# EAGLE library part C.H.I.P.-HEADER (library C.H.I.P)
Pin headers for mating with C.H.I.P. https://www.nextthing.co/
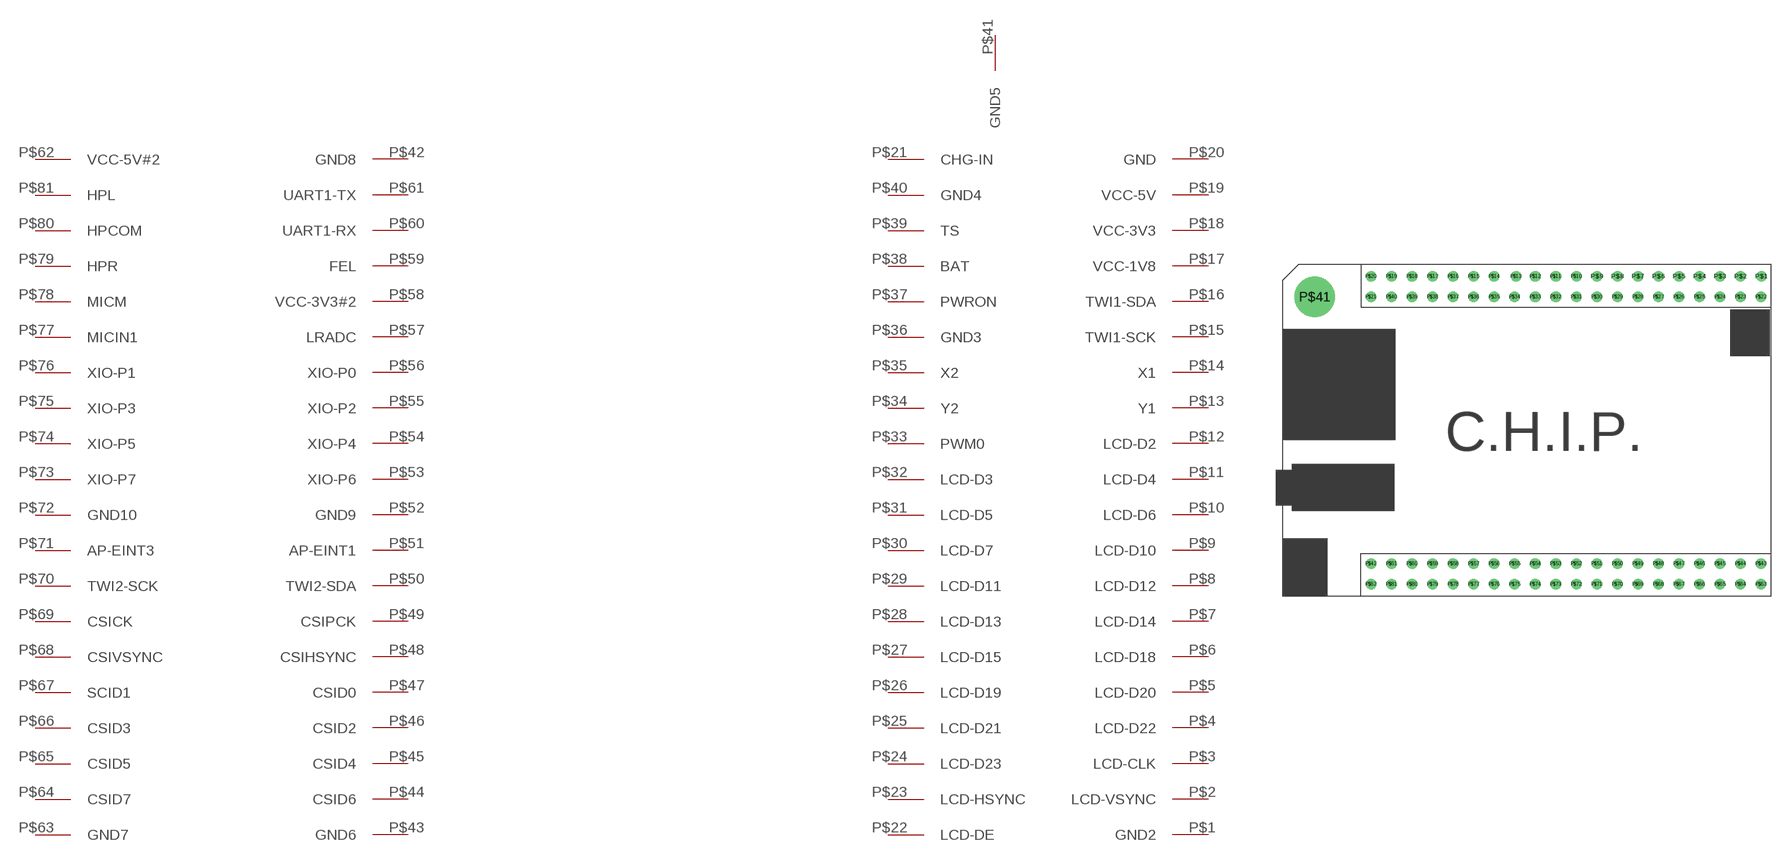
[diagram p0: symbol with the pads of C.H.I.P-HEADER; footprint C.H.I.P-HEADER]

Designator prefix -

## C.H.I.P.-HEADER  [C.H.I.P-HEADER]
P$1  GND2
P$2  LCD-VSYNC
P$3  LCD-CLK
P$4  LCD-D22
P$5  LCD-D20
P$6  LCD-D18
P$7  LCD-D14
P$8  LCD-D12
P$9  LCD-D10
P$10  LCD-D6
P$11  LCD-D4
P$12  LCD-D2
P$13  Y1
P$14  X1
P$15  TWI1-SCK
P$16  TWI1-SDA
P$17  VCC-1V8  pwr
P$18  VCC-3V3  pwr
P$19  VCC-5V  pwr
P$20  GND
P$21  CHG-IN
P$22  LCD-DE
P$23  LCD-HSYNC
P$24  LCD-D23
P$25  LCD-D21
P$26  LCD-D19
P$27  LCD-D15
P$28  LCD-D13
P$29  LCD-D11
P$30  LCD-D7
P$31  LCD-D5
P$32  LCD-D3
P$33  PWM0
P$34  Y2
P$35  X2
P$36  GND3
P$37  PWRON
P$38  BAT
P$39  TS
P$40  GND4
P$41  GND5
P$42  GND8
P$43  GND6
P$44  CSID6
P$45  CSID4
P$46  CSID2
P$47  CSID0
P$48  CSIHSYNC
P$49  CSIPCK
P$50  TWI2-SDA
P$51  AP-EINT1
P$52  GND9
P$53  XIO-P6
P$54  XIO-P4
P$55  XIO-P2
P$56  XIO-P0
P$57  LRADC
P$58  VCC-3V3#2
P$59  FEL
P$60  UART1-RX
P$61  UART1-TX
P$62  VCC-5V#2
P$63  GND7
P$64  CSID7
P$65  CSID5
P$66  CSID3
P$67  SCID1
P$68  CSIVSYNC
P$69  CSICK
P$70  TWI2-SCK
P$71  AP-EINT3
P$72  GND10
P$73  XIO-P7
P$74  XIO-P5
P$75  XIO-P3
P$76  XIO-P1
P$77  MICIN1
P$78  MICM
P$79  HPR
P$80  HPCOM
P$81  HPL

## Footprint C.H.I.P-HEADER (pad centres in mm)
Daughter card header for C.H.I.P Grey areas mark tall components where parts should not be placed on daughter boards. Part created by Seth Wahle twitter: @SethWahle Github: https://github.com/osteth Website: SethWahle.com
drill 0.8: P$1 59.27,39.55; P$2 56.69,39.55; P$3 54.15,39.55; P$4 51.61,39.55; P$5 49.07,39.55; P$6 46.53,39.55; P$7 43.99,39.55; P$8 41.45,39.55; P$9 38.91,39.55; P$10 36.37,39.55; P$11 33.83,39.55; P$12 31.29,39.55; P$13 28.91,39.55; P$14 26.21,39.55; P$15 23.67,39.55; P$16 21.13,39.55; P$17 18.59,39.55; P$18 16.05,39.55; P$19 13.51,39.55; P$20 10.97,39.55; P$21 10.97,37.01; P$22 59.23,37.01; P$23 56.69,37.01; P$24 54.15,37.01; P$25 51.61,37.01; P$26 49.07,37.01; P$27 46.53,37.01; P$28 43.99,37.01; P$29 41.45,37.01; P$30 38.91,37.01; P$31 36.37,37.01; P$32 33.83,37.01; P$33 31.29,37.01; P$34 28.75,37.01; P$35 26.21,37.01; P$36 23.67,37.01; P$37 21.13,37.01; P$38 18.59,37.01; P$39 16.05,37.01; P$40 13.51,37.01; P$42 10.97,3.99; P$43 59.23,3.99; P$44 56.69,3.99; P$45 54.15,3.99; P$46 51.61,3.99; P$47 49.07,3.99; P$48 46.53,3.99; P$49 43.99,3.99; P$50 41.45,3.99; P$51 38.91,3.99; P$52 36.37,3.99; P$53 33.83,3.99; P$54 31.29,3.99; P$55 28.75,3.99; P$56 26.21,3.99; P$57 23.67,3.99; P$58 21.13,3.99; P$59 18.59,3.99; P$60 16.05,3.99; P$61 13.51,3.99; P$62 10.97,1.45; P$63 59.23,1.45; P$64 56.69,1.45; P$65 54.15,1.45; P$66 51.61,1.45; P$67 49.07,1.45; P$68 46.53,1.45; P$69 43.99,1.45; P$70 41.45,1.45; P$71 38.91,1.45; P$72 36.37,1.45; P$73 33.83,1.45; P$74 31.29,1.45; P$75 28.75,1.45; P$76 26.21,1.45; P$77 23.67,1.45; P$78 21.13,1.45; P$79 18.59,1.45; P$80 16.05,1.45; P$81 13.51,1.45
drill 3.08 pad 5: P$41 4,37